# EAGLE library part EADOGS102 (library eadog)
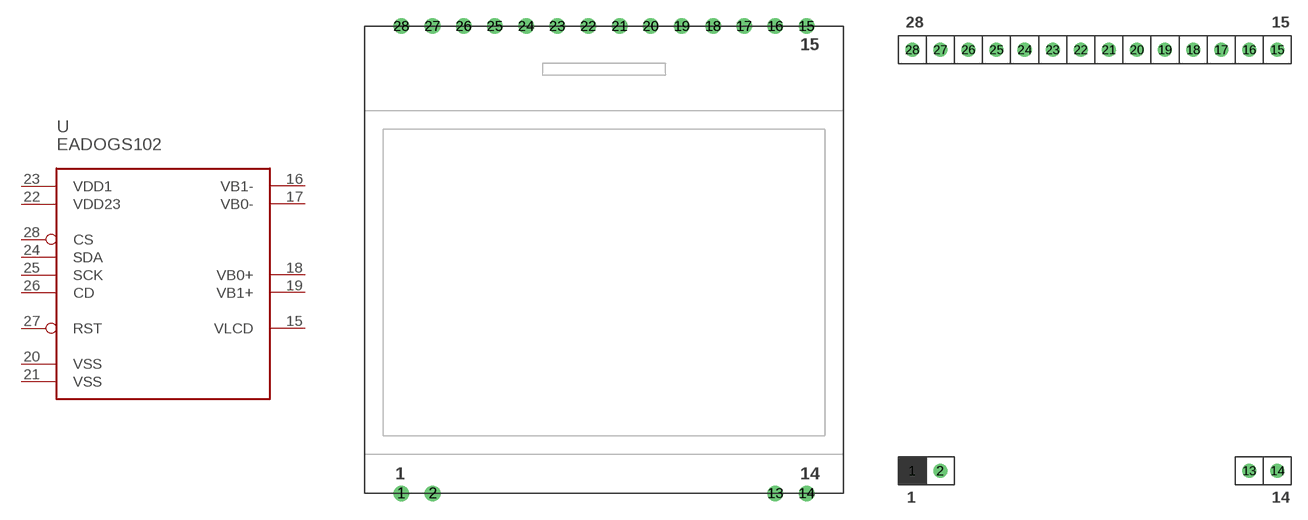
[diagram p0: symbol with the pads of EADOGS; footprints EADOGS, EADOGS-SOCKET]

Designator prefix -

## EADOGS102  [EADOGS]
15  VLCD
16  VB1-
17  VB0-
18  VB0+
19  VB1+
20  VSS
21  VSS
22  VDD23
23  VDD1
24  SDA
25  SCK
26  CD
27  RST
28  CS

## EADOGS102SOCKET  [EADOGS-SOCKET]
Pads as for EADOGS

## Footprint EADOGS (pad centres in mm)
drill 0.61 pad 1.27: 1 -16.51,-38.1; 2 -13.97,-38.1; 13 13.97,-38.1; 14 16.51,-38.1; 15 16.51,0; 16 13.97,0; 17 11.43,0; 18 8.89,0; 19 6.35,0; 20 3.81,0; 21 1.27,0; 22 -1.27,0; 23 -3.81,0; 24 -6.35,0; 25 -8.89,0; 26 -11.43,0; 27 -13.97,0
drill 0.6 pad 1.27: 28 -16.51,0

## Footprint EADOGS-SOCKET (pad centres in mm)
drill 0.61 pad 1.27: 1 -16.51,-38.1; 2 -13.97,-38.1; 13 13.97,-38.1; 14 16.51,-38.1; 15 16.51,0; 16 13.97,0; 17 11.43,0; 18 8.89,0; 19 6.35,0; 20 3.81,0; 21 1.27,0; 22 -1.27,0; 23 -3.81,0; 24 -6.35,0; 25 -8.89,0; 26 -11.43,0; 27 -13.97,0
drill 0.6 pad 1.27: 28 -16.51,0